# Altium schematic symbol library CON1_b.Schlib: 1 symbol
Pins are listed as number, name and electrical type; pins without a type are passive.

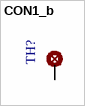
[diagram p0: symbol CON1_b]

## CON1_b
designator TH?
SOLDER PAD
pins: 1